# Altium footprint library TutorialLibrary.PcbLib: 2 footprints
Each footprint in its own frame and in the unit in brackets; x right, y up, seen from the top. Pads: shape width x height; smd on the part's side, far side on the other; paste and mask are expansions set on the pad; w line width, h text height; cw(c..) or ccw(c..) is an arc to the next point about the centre after c.
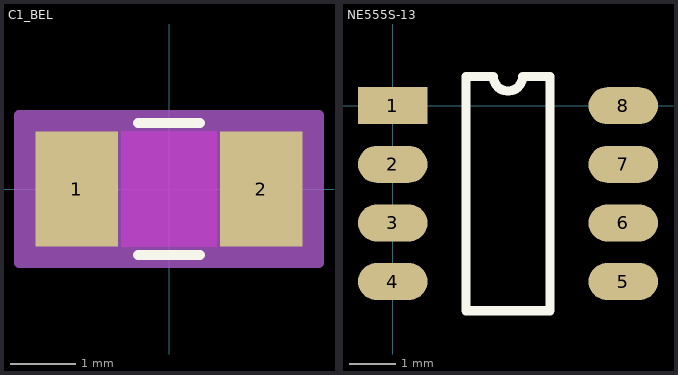
[diagram p0: the footprints below, top view; thin cyan lines are the x and y axes]

## C1_BEL [mil]
pads (2):
  rect 50x70 smd paste+0 mask+0: 1(-56,0) 2(56,0)
Top Layer keep-out:
  region: -29,-33 -29,33 29,33 29,-33
Top Overlay:
  lines w6: -18.89,-40 18.89,-40 ; -18.89,40 18.89,40
Keep-Out Layer:
  region: -29,-35 -29,35 29,35 29,-35
Mechanical 13:
  lines w1: -67,-35 -67,35 ; -67,-35 -31,-35 -31,35 -67,35 ; -67,-35 67,-35 ; -67,-35 -67,35 ; -67,35 67,35 ; 67,-35 31,-35 31,35 67,35 ; 67,-35 67,35 ; 67,-35 67,35
Mechanical 15:
  region: 91,-45 -91,-45 -91,45 91,45
  lines w6: -91,-45 -91,45 91,45 91,-45 -91,-45
3D body "C1_BEL.step": height 30.98, standoff 0, extent -67.01,-35 67.01,35

## NE555S-13 [mm] "555 Timer"
pads (8):
  rect 1.505x0.802 smd: 1(0,0)
  oval 1.505x0.802 smd: 2(0,-1.27) 3(0,-2.54) 4(0,-3.81) 5(4.995,-3.81) 6(4.995,-2.54) 7(4.995,-1.27) 8(4.995,0)
Top Overlay:
  lines w0.2: 1.587,-4.445 3.407,-4.445 3.407,0.635 2.815,0.635 cw(c2.497,0.635) 2.18,0.635 1.587,0.635 1.587,-4.445